# EAGLE library part FDC2512 (library transistor-fet)
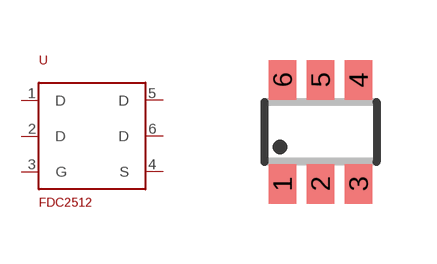
[diagram p10: symbol with the pads of SSOT6; footprint SSOT6]

Designator prefix -

## FDC2512  [SSOT6]
1  D
2  D
3  G
4  S
5  D
6  D

## Footprint SSOT6 (pad centres in mm)
SuperSOT-6 Source: Fairchild Semiconductor International ssot6_dim.pdf September 1998, Rev. A
smd 0.69 x 0.99: 1 -0.95,-1.3; 2 0,-1.3; 3 0.95,-1.3; 4 0.95,1.3; 5 0,1.3; 6 -0.95,1.3